# EAGLE library part BOB_ARM_LQFP48_STM32F103XXX_OVAL (library CEDTv75)
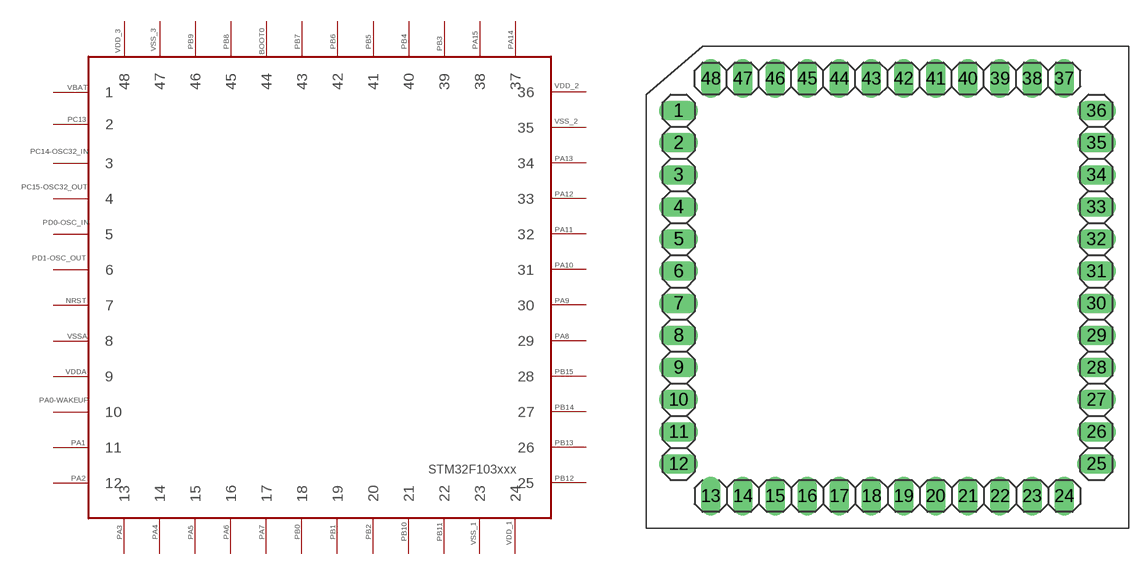
[diagram p42: symbol with the pads of BOB_LQFP48_OVAL; footprint BOB_LQFP48_OVAL]

Designator prefix -

## BOB_ARM_LQFP48_STM32F103XXX_OVAL  [BOB_LQFP48_OVAL]
1  1  pas
2  2  pas
3  3  pas
4  4  pas
5  5  pas
6  6  pas
7  7  pas
8  8  pas
9  9  pas
10  10  pas
11  11  pas
12  12  pas
13  13  pas
14  14  pas
15  15  pas
16  16  pas
17  17  pas
18  18  pas
19  19  pas
20  20  pas
21  21  pas
22  22  pas
23  23  pas
24  24  pas
25  25  pas
26  26  pas
27  27  pas
28  28  pas
29  29  pas
30  30  pas
31  31  pas
32  32  pas
33  33  pas
34  34  pas
35  35  pas
36  36  pas
37  37  pas
38  38  pas
39  39  pas
40  40  pas
41  41  pas
42  42  pas
43  43  pas
44  44  pas
45  45  pas
46  46  pas
47  47  pas
48  48  pas

## Footprint BOB_LQFP48_OVAL (pad centres in mm)
48-pin Low Profile Quad Flat Pack
drill 1.016 long: 1 -15.24,12.7; 2 -15.24,10.16; 3 -15.24,7.62; 4 -15.24,5.08; 5 -15.24,2.54; 6 -15.24,0; 7 -15.24,-2.54; 8 -15.24,-5.08; 9 -15.24,-7.62; 10 -15.24,-10.16; 11 -15.24,-12.7; 12 -15.24,-15.24; 13 -12.7,-17.78; 14 -10.16,-17.78; 15 -7.62,-17.78; 16 -5.08,-17.78; 17 -2.54,-17.78; 18 0,-17.78; 19 2.54,-17.78; 20 5.08,-17.78; 21 7.62,-17.78; 22 10.16,-17.78; 23 12.7,-17.78; 24 15.24,-17.78; 25 17.78,-15.24; 26 17.78,-12.7; 27 17.78,-10.16; 28 17.78,-7.62; 29 17.78,-5.08; 30 17.78,-2.54; 31 17.78,0; 32 17.78,2.54; 33 17.78,5.08; 34 17.78,7.62; 35 17.78,10.16; 36 17.78,12.7; 37 15.24,15.24; 38 12.7,15.24; 39 10.16,15.24; 40 7.62,15.24; 41 5.08,15.24; 42 2.54,15.24; 43 0,15.24; 44 -2.54,15.24; 45 -5.08,15.24; 46 -7.62,15.24; 47 -10.16,15.24; 48 -12.7,15.24